# Altium integrated library Analog Devices Switches and Multiplexers Analog Switches.IntLib: 575 symbols (part 13 of 23)
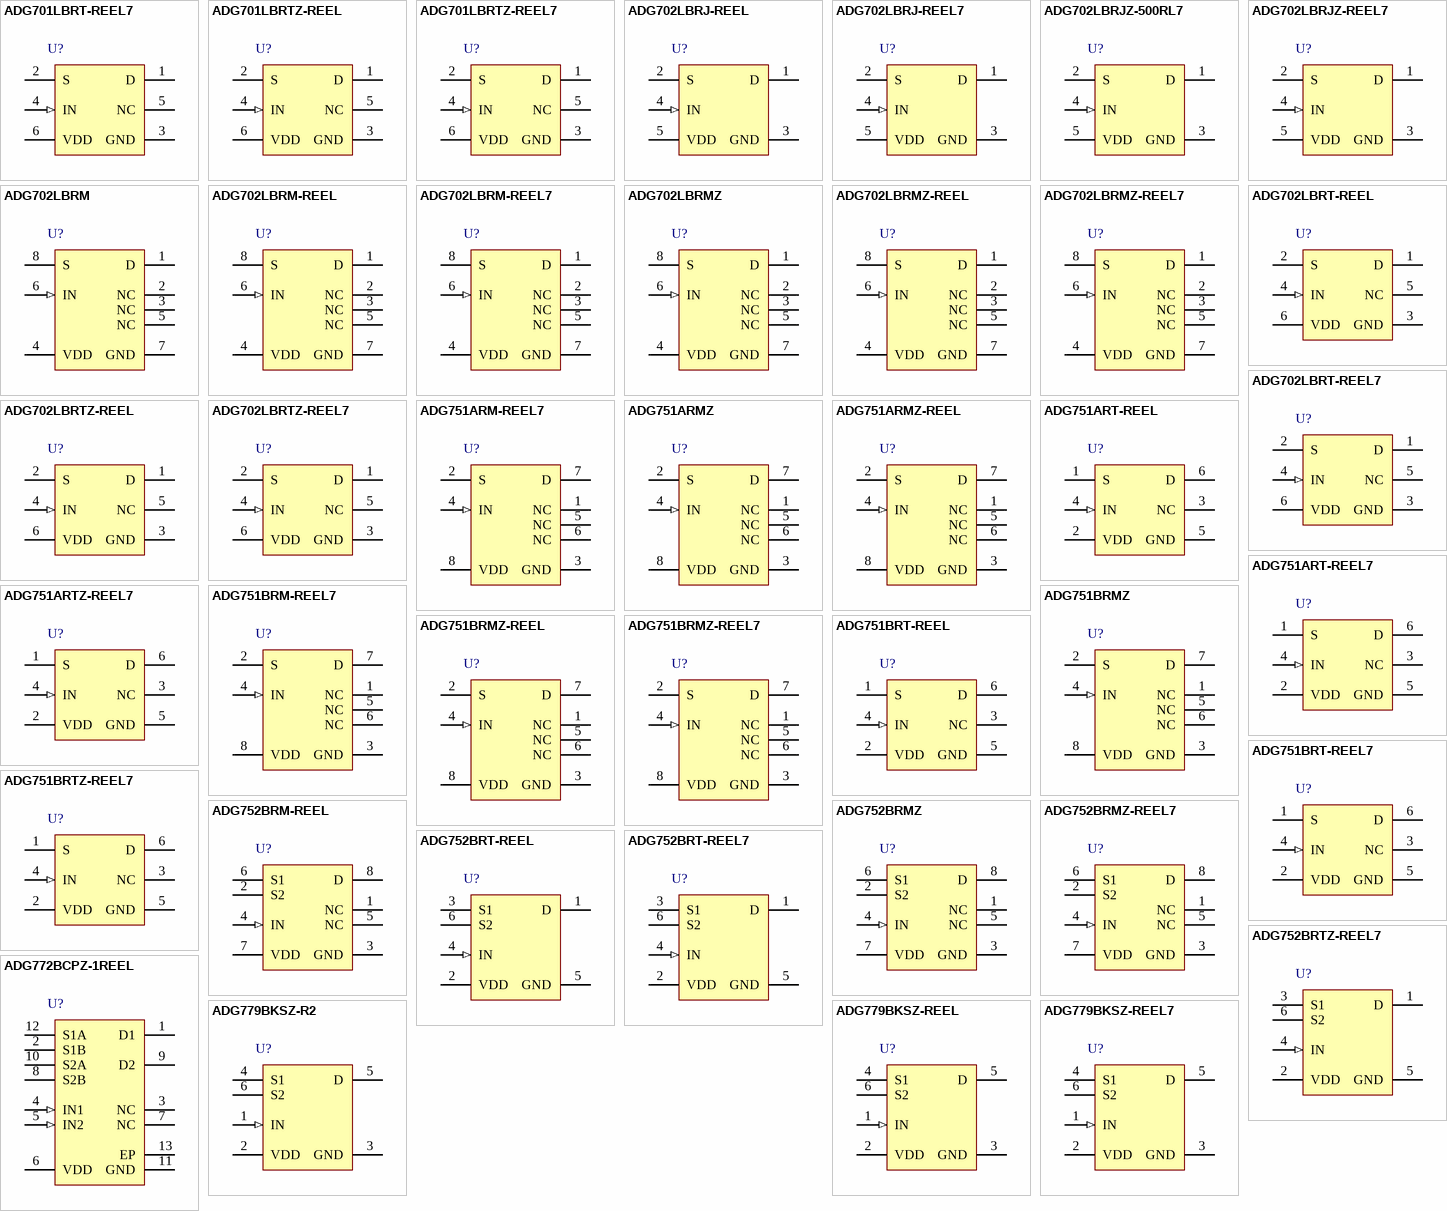
[diagram p27: symbols ADG701LBRT-REEL7 to ADG779BKSZ-REEL7]

## ADG702LBRTZ-REEL7
designator U?
CMOS Low Voltage 2 Ohm SPST Switch, -40 to 85 degC, 6-pin SOT23 (RJ-6), Reel; Manufacturer: Analog Devices; PartNumber: ADG702LBRTZ-REEL7; Id, Is (ON): 10pA, 10pA; Max Pos Supply: 5.5V; Min Pos Supply: 1.8V; Power Dissipation: 5uW; Ron (ohms): 2; DatasheetVersion: Rev. 0; PackageVersion: 121608-A, 12/2008; PackageReference: RJ-6; PackageDescription: 6-Pin Small Outline Transistor Package, Body 2.9 x 1.6 mm, Pitch 0.95 mm; Supplier 1: Digi-Key; Supplier Part Number 1: ADG702LBRTZ-REEL7TR-ND; Supplier 2: Digi-Key; Supplier Part Number 2: ADG702LBRTZ-REEL7CT-ND; Supplier 3: Digi-Key; Supplier Part Number 3: ADG702LBRTZ-REEL7DKR-ND; Supplier 4: Farnell; Supplier Part Number 4: 2312946; Supplier 5: Newark; Supplier Part Number 5: 28M3621; Supplier 6: Newark; Supplier Part Number 6: 67W3127; Supplier 7: Mouser; Supplier Part Number 7: 584-ADG702LBRTZ-R7; Configuration: SPST; Is OFF: 10pA, 10pA; Packing: Reel; Mounting Technology: Surface Mount; Code_JEDEC: MO-178-AB; ComponentLink1Description: Manufacturer URL; ComponentLink1URL: http://www.analog.com/en/index.html; ComponentLink2Description: Datasheet; ComponentLink2URL: http://www.analog.com/static/imported-files/data_sheets/ADG701L_702L.pdf; ComponentLink3Description: Package Specification; ComponentLink3URL: http://www.analog.com/static/imported-files/packages/PKG_PDF/SOT-23(RJ)/RJ_6.pdf
footprint ADI-RJ-6_N (SOT23, 6-Leads, Body 2.9x1.6mm, Pitch 0.95mm, IPC Medium Density)
footprint ADI-RJ-6_L (SOT23, 6-Leads, Body 2.9x1.6mm, Pitch 0.95mm, IPC High Density)
footprint ADI-RJ-6_M (SOT23, 6-Leads, Body 2.9x1.6mm, Pitch 0.95mm, IPC Low Density)
pins: 1 D "Drain Terminal. May be an input or output.", 2 S "Source Terminal. May be an input or output.", 3 GND (power) "Ground (0 V) Reference", 4 IN (in) "Logic Control Input", 5 NC "No Connect.", 6 VDD (power) "Most Positive Power Supply Potential."

## ADG751ARM-REEL7
designator U?
CMOS, Low Voltage RF / Video, SPST Switch, 15 Ohm Ron, 8-pin SOP (RM-8), Reel; Manufacturer: Analog Devices; PartNumber: ADG751ARM-REEL7; # Sw Functions: 1; Max Neg Supply: 0V; Max Pos Supply: +5.5V; Ron (ohms): 15, 35; t ON: 9ns, 12ns; DatasheetVersion: Rev. A; PackageVersion: Aug-05; PackageReference: RM-8; PackageDescription: 8-Pin Mini Small Outline Package, Body 3 x 3 mm, Pitch 0.65 mm; Supplier 1: Digi-Key; Supplier Part Number 1: ADG751ARM-REEL7-ND; Configuration: SPST; Packing: Reel; Mounting Technology: Surface Mount; Code_JEDEC: MO-187-AA; ComponentLink1Description: Manufacturer URL; ComponentLink1URL: http://www.analog.com/en/index.html; ComponentLink2Description: Datasheet; ComponentLink2URL: http://www.analog.com/static/imported-files/data_sheets/ADG751.pdf; ComponentLink3Description: Package Specification; ComponentLink3URL: http://www.analog.com/static/imported-files/packages/PKG_PDF/MSOP%28RM%29/RM_8.pdf
footprint ADI-RM-8_N (SOP, 8-Leads, Body 3x3mm, Pitch 0.65mm, IPC Medium Density)
footprint ADI-RM-8_L (SOP, 8-Leads, Body 3x3mm, Pitch 0.65mm, IPC High Density)
footprint ADI-RM-8_M (SOP, 8-Leads, Body 3x3mm, Pitch 0.65mm, IPC Low Density)
pins: 1 NC "NO CONNECT", 2 S "Source terminal. May be an input or output.", 3 GND (power) "Ground (0 V) reference.", 4 IN (in) "Logic control input.", 5 NC "NO CONNECT", 6 NC "NO CONNECT", 7 D "Drain terminal. May be an input or output.", 8 VDD (power) "Most positive power supply potential."

## ADG751ARMZ
designator U?
CMOS, Low Voltage RF / Video, SPST Switch, 15 Ohm Ron, 8-pin SOP (RM-8), Tube; Manufacturer: Analog Devices; PartNumber: ADG751ARMZ; # Sw Functions: 1; Max Neg Supply: 0V; Max Pos Supply: +5.5V; Ron (ohms): 15, 35; t ON: 9ns, 12ns; DatasheetVersion: Rev. A; PackageVersion: Aug-05; PackageReference: RM-8; PackageDescription: 8-Pin Mini Small Outline Package, Body 3 x 3 mm, Pitch 0.65 mm; Supplier 1: Digi-Key; Supplier Part Number 1: ADG751ARMZ-ND; Supplier 2: Mouser; Supplier Part Number 2: 584-ADG751ARMZ; Configuration: SPST; Packing: Tube; Mounting Technology: Surface Mount; Code_JEDEC: MO-187-AA; ComponentLink1Description: Manufacturer URL; ComponentLink1URL: http://www.analog.com/en/index.html; ComponentLink2Description: Datasheet; ComponentLink2URL: http://www.analog.com/static/imported-files/data_sheets/ADG751.pdf; ComponentLink3Description: Package Specification; ComponentLink3URL: http://www.analog.com/static/imported-files/packages/PKG_PDF/MSOP%28RM%29/RM_8.pdf
footprint ADI-RM-8_N (SOP, 8-Leads, Body 3x3mm, Pitch 0.65mm, IPC Medium Density)
footprint ADI-RM-8_L (SOP, 8-Leads, Body 3x3mm, Pitch 0.65mm, IPC High Density)
footprint ADI-RM-8_M (SOP, 8-Leads, Body 3x3mm, Pitch 0.65mm, IPC Low Density)
pins: 1 NC "NO CONNECT", 2 S "Source terminal. May be an input or output.", 3 GND (power) "Ground (0 V) reference.", 4 IN (in) "Logic control input.", 5 NC "NO CONNECT", 6 NC "NO CONNECT", 7 D "Drain terminal. May be an input or output.", 8 VDD (power) "Most positive power supply potential."

## ADG751ARMZ-REEL
designator U?
CMOS, Low Voltage RF / Video, SPST Switch, 15 Ohm Ron, 8-pin SOP (RM-8), Reel; Manufacturer: Analog Devices; PartNumber: ADG751ARMZ-REEL; # Sw Functions: 1; Max Neg Supply: 0V; Max Pos Supply: +5.5V; Ron (ohms): 15, 35; t ON: 9ns, 12ns; DatasheetVersion: Rev. A; PackageVersion: Aug-05; PackageReference: RM-8; PackageDescription: 8-Pin Mini Small Outline Package, Body 3 x 3 mm, Pitch 0.65 mm; Supplier 1: Digi-Key; Supplier Part Number 1: ADG751ARMZ-REEL-ND; Supplier 2: Mouser; Supplier Part Number 2: 584-ADG751ARMZ-R; Configuration: SPST; Packing: Reel; Mounting Technology: Surface Mount; Code_JEDEC: MO-187-AA; ComponentLink1Description: Manufacturer URL; ComponentLink1URL: http://www.analog.com/en/index.html; ComponentLink2Description: Datasheet; ComponentLink2URL: http://www.analog.com/static/imported-files/data_sheets/ADG751.pdf; ComponentLink3Description: Package Specification; ComponentLink3URL: http://www.analog.com/static/imported-files/packages/PKG_PDF/MSOP%28RM%29/RM_8.pdf
footprint ADI-RM-8_N (SOP, 8-Leads, Body 3x3mm, Pitch 0.65mm, IPC Medium Density)
footprint ADI-RM-8_L (SOP, 8-Leads, Body 3x3mm, Pitch 0.65mm, IPC High Density)
footprint ADI-RM-8_M (SOP, 8-Leads, Body 3x3mm, Pitch 0.65mm, IPC Low Density)
pins: 1 NC "NO CONNECT", 2 S "Source terminal. May be an input or output.", 3 GND (power) "Ground (0 V) reference.", 4 IN (in) "Logic control input.", 5 NC "NO CONNECT", 6 NC "NO CONNECT", 7 D "Drain terminal. May be an input or output.", 8 VDD (power) "Most positive power supply potential."

## ADG751ART-REEL
designator U?
CMOS, Low Voltage RF / Video, SPST Switch, 15 Ohm Ron, 6-pin SOT23 (RT-6), Reel; Manufacturer: Analog Devices; PartNumber: ADG751ART-REEL; # Sw Functions: 1; Max Neg Supply: 0V; Max Pos Supply: +5.5V; Ron (ohms): 15, 35; t ON: 9ns, 12ns; DatasheetVersion: Rev. A; PackageVersion: 121608-A, 12/2008; PackageReference: RJ-6; PackageDescription: 6-Pin Small Outline Transistor Package, Body 2.9 x 1.6 mm, Pitch 0.95 mm; Supplier 1: Digi-Key; Supplier Part Number 1: ADG751ART-REEL-ND; Supplier 2: Mouser; Supplier Part Number 2: 584-ADG751ART-R; Configuration: SPST; Packing: Reel; Mounting Technology: Surface Mount; Code_JEDEC: MO-178-AB; ComponentLink1Description: Manufacturer URL; ComponentLink1URL: http://www.analog.com/en/index.html; ComponentLink2Description: Datasheet; ComponentLink2URL: http://www.analog.com/static/imported-files/data_sheets/ADG751.pdf; ComponentLink3Description: Package Specification; ComponentLink3URL: http://www.analog.com/static/imported-files/packages/PKG_PDF/SOT-23(RJ)/RJ_6.pdf
footprint ADI-RJ-6_N (SOT23, 6-Leads, Body 2.9x1.6mm, Pitch 0.95mm, IPC Medium Density)
footprint ADI-RJ-6_L (SOT23, 6-Leads, Body 2.9x1.6mm, Pitch 0.95mm, IPC High Density)
footprint ADI-RJ-6_M (SOT23, 6-Leads, Body 2.9x1.6mm, Pitch 0.95mm, IPC Low Density)
pins: 1 S "Source terminal. May be an input or output.", 2 VDD (power) "Most positive power supply potential.", 3 NC "NO CONNECT", 4 IN (in) "Logic control input.", 5 GND (power) "Ground (0 V) reference.", 6 D "Drain terminal. May be an input or output."

## ADG751ART-REEL7
designator U?
CMOS, Low Voltage RF / Video, SPST Switch, 15 Ohm Ron, 6-pin SOT23 (RT-6), Reel; Manufacturer: Analog Devices; PartNumber: ADG751ART-REEL7; # Sw Functions: 1; Max Neg Supply: 0V; Max Pos Supply: +5.5V; Ron (ohms): 15, 35; t ON: 9ns, 12ns; DatasheetVersion: Rev. A; PackageVersion: 121608-A, 12/2008; PackageReference: RJ-6; PackageDescription: 6-Pin Small Outline Transistor Package, Body 2.9 x 1.6 mm, Pitch 0.95 mm; Supplier 1: Digi-Key; Supplier Part Number 1: ADG751ART-REEL7TR-ND; Supplier 2: Digi-Key; Supplier Part Number 2: ADG751ART-REEL7CT-ND; Supplier 3: Digi-Key; Supplier Part Number 3: ADG751ART-REEL7DKR-ND; Supplier 4: Mouser; Supplier Part Number 4: 584-ADG751ART-R7; Configuration: SPST; Packing: Reel; Mounting Technology: Surface Mount; Code_JEDEC: MO-178-AB; ComponentLink1Description: Manufacturer URL; ComponentLink1URL: http://www.analog.com/en/index.html; ComponentLink2Description: Datasheet; ComponentLink2URL: http://www.analog.com/static/imported-files/data_sheets/ADG751.pdf; ComponentLink3Description: Package Specification; ComponentLink3URL: http://www.analog.com/static/imported-files/packages/PKG_PDF/SOT-23(RJ)/RJ_6.pdf
footprint ADI-RJ-6_N (SOT23, 6-Leads, Body 2.9x1.6mm, Pitch 0.95mm, IPC Medium Density)
footprint ADI-RJ-6_L (SOT23, 6-Leads, Body 2.9x1.6mm, Pitch 0.95mm, IPC High Density)
footprint ADI-RJ-6_M (SOT23, 6-Leads, Body 2.9x1.6mm, Pitch 0.95mm, IPC Low Density)
pins: 1 S "Source terminal. May be an input or output.", 2 VDD (power) "Most positive power supply potential.", 3 NC "NO CONNECT", 4 IN (in) "Logic control input.", 5 GND (power) "Ground (0 V) reference.", 6 D "Drain terminal. May be an input or output."

## ADG751ARTZ-REEL7
designator U?
CMOS, Low Voltage RF / Video, SPST Switch, 15 Ohm Ron, 6-pin SOT23 (RT-6), Reel; Manufacturer: Analog Devices; PartNumber: ADG751ARTZ-REEL7; # Sw Functions: 1; Max Neg Supply: 0V; Max Pos Supply: +5.5V; Ron (ohms): 15, 35; t ON: 9ns, 12ns; DatasheetVersion: Rev. A; PackageVersion: 121608-A, 12/2008; PackageReference: RJ-6; PackageDescription: 6-Pin Small Outline Transistor Package, Body 2.9 x 1.6 mm, Pitch 0.95 mm; Supplier 1: Digi-Key; Supplier Part Number 1: ADG751ARTZ-REEL7TR-ND; Supplier 2: Digi-Key; Supplier Part Number 2: ADG751ARTZ-REEL7CT-ND; Supplier 3: Digi-Key; Supplier Part Number 3: ADG751ARTZ-REEL7DKR-ND; Supplier 4: Farnell; Supplier Part Number 4: 2312947; Supplier 5: Newark; Supplier Part Number 5: 67W3128; Supplier 6: Newark; Supplier Part Number 6: 12M7838; Supplier 7: Mouser; Supplier Part Number 7: 584-ADG751ARTZ-R7; Configuration: SPST; Packing: Reel; Mounting Technology: Surface Mount; Code_JEDEC: MO-178-AB; ComponentLink1Description: Manufacturer URL; ComponentLink1URL: http://www.analog.com/en/index.html; ComponentLink2Description: Datasheet; ComponentLink2URL: http://www.analog.com/static/imported-files/data_sheets/ADG751.pdf; ComponentLink3Description: Package Specification; ComponentLink3URL: http://www.analog.com/static/imported-files/packages/PKG_PDF/SOT-23(RJ)/RJ_6.pdf
footprint ADI-RJ-6_N (SOT23, 6-Leads, Body 2.9x1.6mm, Pitch 0.95mm, IPC Medium Density)
footprint ADI-RJ-6_L (SOT23, 6-Leads, Body 2.9x1.6mm, Pitch 0.95mm, IPC High Density)
footprint ADI-RJ-6_M (SOT23, 6-Leads, Body 2.9x1.6mm, Pitch 0.95mm, IPC Low Density)
pins: 1 S "Source terminal. May be an input or output.", 2 VDD (power) "Most positive power supply potential.", 3 NC "NO CONNECT", 4 IN (in) "Logic control input.", 5 GND (power) "Ground (0 V) reference.", 6 D "Drain terminal. May be an input or output."

## ADG751BRM-REEL7
designator U?
CMOS, Low Voltage RF / Video, SPST Switch, 15 Ohm Ron, 8-pin SOP (RM-8), Reel; Manufacturer: Analog Devices; PartNumber: ADG751BRM-REEL7; # Sw Functions: 1; Max Neg Supply: 0V; Max Pos Supply: +5.5V; Ron (ohms): 28, 60; t ON: 9ns, 12ns; DatasheetVersion: Rev. A; PackageVersion: Aug-05; PackageReference: RM-8; PackageDescription: 8-Pin Mini Small Outline Package, Body 3 x 3 mm, Pitch 0.65 mm; Configuration: SPST; Packing: Reel; Mounting Technology: Surface Mount; Code_JEDEC: MO-187-AA; ComponentLink1Description: Manufacturer URL; ComponentLink1URL: http://www.analog.com/en/index.html; ComponentLink2Description: Datasheet; ComponentLink2URL: http://www.analog.com/static/imported-files/data_sheets/ADG751.pdf; ComponentLink3Description: Package Specification; ComponentLink3URL: http://www.analog.com/static/imported-files/packages/PKG_PDF/MSOP%28RM%29/RM_8.pdf
footprint ADI-RM-8_N (SOP, 8-Leads, Body 3x3mm, Pitch 0.65mm, IPC Medium Density)
footprint ADI-RM-8_L (SOP, 8-Leads, Body 3x3mm, Pitch 0.65mm, IPC High Density)
footprint ADI-RM-8_M (SOP, 8-Leads, Body 3x3mm, Pitch 0.65mm, IPC Low Density)
pins: 1 NC "NO CONNECT", 2 S "Source terminal. May be an input or output.", 3 GND (power) "Ground (0 V) reference.", 4 IN (in) "Logic control input.", 5 NC "NO CONNECT", 6 NC "NO CONNECT", 7 D "Drain terminal. May be an input or output.", 8 VDD (power) "Most positive power supply potential."

## ADG751BRMZ
designator U?
CMOS, Low Voltage RF / Video, SPST Switch, 15 Ohm Ron, 8-pin SOP (RM-8), Tube; Manufacturer: Analog Devices; PartNumber: ADG751BRMZ; # Sw Functions: 1; Max Neg Supply: 0V; Max Pos Supply: +5.5V; Ron (ohms): 28, 60; t ON: 9ns, 12ns; DatasheetVersion: Rev. A; PackageVersion: Aug-05; PackageReference: RM-8; PackageDescription: 8-Pin Mini Small Outline Package, Body 3 x 3 mm, Pitch 0.65 mm; Supplier 1: Digi-Key; Supplier Part Number 1: ADG751BRMZ-ND; Configuration: SPST; Packing: Tube; Mounting Technology: Surface Mount; Code_JEDEC: MO-187-AA; ComponentLink1Description: Manufacturer URL; ComponentLink1URL: http://www.analog.com/en/index.html; ComponentLink2Description: Datasheet; ComponentLink2URL: http://www.analog.com/static/imported-files/data_sheets/ADG751.pdf; ComponentLink3Description: Package Specification; ComponentLink3URL: http://www.analog.com/static/imported-files/packages/PKG_PDF/MSOP%28RM%29/RM_8.pdf
footprint ADI-RM-8_N (SOP, 8-Leads, Body 3x3mm, Pitch 0.65mm, IPC Medium Density)
footprint ADI-RM-8_L (SOP, 8-Leads, Body 3x3mm, Pitch 0.65mm, IPC High Density)
footprint ADI-RM-8_M (SOP, 8-Leads, Body 3x3mm, Pitch 0.65mm, IPC Low Density)
pins: 1 NC "NO CONNECT", 2 S "Source terminal. May be an input or output.", 3 GND (power) "Ground (0 V) reference.", 4 IN (in) "Logic control input.", 5 NC "NO CONNECT", 6 NC "NO CONNECT", 7 D "Drain terminal. May be an input or output.", 8 VDD (power) "Most positive power supply potential."

## ADG751BRMZ-REEL
designator U?
CMOS, Low Voltage RF / Video, SPST Switch, 15 Ohm Ron, 8-pin SOP (RM-8), Reel; Manufacturer: Analog Devices; PartNumber: ADG751BRMZ-REEL; # Sw Functions: 1; Max Neg Supply: 0V; Max Pos Supply: +5.5V; Ron (ohms): 28, 60; t ON: 9ns, 12ns; DatasheetVersion: Rev. A; PackageVersion: Aug-05; PackageReference: RM-8; PackageDescription: 8-Pin Mini Small Outline Package, Body 3 x 3 mm, Pitch 0.65 mm; Supplier 1: Digi-Key; Supplier Part Number 1: ADG751BRMZ-REELTR-ND; Supplier 2: Digi-Key; Supplier Part Number 2: ADG751BRMZ-REELCT-ND; Supplier 3: Digi-Key; Supplier Part Number 3: ADG751BRMZ-REELDKR-ND; Supplier 4: Mouser; Supplier Part Number 4: 584-ADG751BRMZ-R; Configuration: SPST; Packing: Reel; Mounting Technology: Surface Mount; Code_JEDEC: MO-187-AA; ComponentLink1Description: Manufacturer URL; ComponentLink1URL: http://www.analog.com/en/index.html; ComponentLink2Description: Datasheet; ComponentLink2URL: http://www.analog.com/static/imported-files/data_sheets/ADG751.pdf; ComponentLink3Description: Package Specification; ComponentLink3URL: http://www.analog.com/static/imported-files/packages/PKG_PDF/MSOP%28RM%29/RM_8.pdf
footprint ADI-RM-8_N (SOP, 8-Leads, Body 3x3mm, Pitch 0.65mm, IPC Medium Density)
footprint ADI-RM-8_L (SOP, 8-Leads, Body 3x3mm, Pitch 0.65mm, IPC High Density)
footprint ADI-RM-8_M (SOP, 8-Leads, Body 3x3mm, Pitch 0.65mm, IPC Low Density)
pins: 1 NC "NO CONNECT", 2 S "Source terminal. May be an input or output.", 3 GND (power) "Ground (0 V) reference.", 4 IN (in) "Logic control input.", 5 NC "NO CONNECT", 6 NC "NO CONNECT", 7 D "Drain terminal. May be an input or output.", 8 VDD (power) "Most positive power supply potential."

## ADG751BRMZ-REEL7
designator U?
CMOS, Low Voltage RF / Video, SPST Switch, 15 Ohm Ron, 8-pin SOP (RM-8), Reel; Manufacturer: Analog Devices; PartNumber: ADG751BRMZ-REEL7; # Sw Functions: 1; Max Neg Supply: 0V; Max Pos Supply: +5.5V; Ron (ohms): 28, 60; t ON: 9ns, 12ns; DatasheetVersion: Rev. A; PackageVersion: Aug-05; PackageReference: RM-8; PackageDescription: 8-Pin Mini Small Outline Package, Body 3 x 3 mm, Pitch 0.65 mm; Supplier 1: Digi-Key; Supplier Part Number 1: ADG751BRMZ-REEL7-ND; Configuration: SPST; Packing: Reel; Mounting Technology: Surface Mount; Code_JEDEC: MO-187-AA; ComponentLink1Description: Manufacturer URL; ComponentLink1URL: http://www.analog.com/en/index.html; ComponentLink2Description: Datasheet; ComponentLink2URL: http://www.analog.com/static/imported-files/data_sheets/ADG751.pdf; ComponentLink3Description: Package Specification; ComponentLink3URL: http://www.analog.com/static/imported-files/packages/PKG_PDF/MSOP%28RM%29/RM_8.pdf
footprint ADI-RM-8_N (SOP, 8-Leads, Body 3x3mm, Pitch 0.65mm, IPC Medium Density)
footprint ADI-RM-8_L (SOP, 8-Leads, Body 3x3mm, Pitch 0.65mm, IPC High Density)
footprint ADI-RM-8_M (SOP, 8-Leads, Body 3x3mm, Pitch 0.65mm, IPC Low Density)
pins: 1 NC "NO CONNECT", 2 S "Source terminal. May be an input or output.", 3 GND (power) "Ground (0 V) reference.", 4 IN (in) "Logic control input.", 5 NC "NO CONNECT", 6 NC "NO CONNECT", 7 D "Drain terminal. May be an input or output.", 8 VDD (power) "Most positive power supply potential."

## ADG751BRT-REEL
designator U?
CMOS, Low Voltage RF / Video, SPST Switch, 15 Ohm Ron, 6-pin SOT23 (RT-6), Reel; Manufacturer: Analog Devices; PartNumber: ADG751BRT-REEL; # Sw Functions: 1; Max Neg Supply: 0V; Max Pos Supply: +5.5V; Ron (ohms): 28, 60; t ON: 9ns, 12ns; DatasheetVersion: Rev. A; PackageVersion: 121608-A, 12/2008; PackageReference: RJ-6; PackageDescription: 6-Pin Small Outline Transistor Package, Body 2.9 x 1.6 mm, Pitch 0.95 mm; Supplier 1: Digi-Key; Supplier Part Number 1: ADG751BRT-REEL-ND; Supplier 2: Mouser; Supplier Part Number 2: 584-ADG751BRT-R; Configuration: SPST; Packing: Reel; Mounting Technology: Surface Mount; Code_JEDEC: MO-178-AB; ComponentLink1Description: Manufacturer URL; ComponentLink1URL: http://www.analog.com/en/index.html; ComponentLink2Description: Datasheet; ComponentLink2URL: http://www.analog.com/static/imported-files/data_sheets/ADG751.pdf; ComponentLink3Description: Package Specification; ComponentLink3URL: http://www.analog.com/static/imported-files/packages/PKG_PDF/SOT-23(RJ)/RJ_6.pdf
footprint ADI-RJ-6_N (SOT23, 6-Leads, Body 2.9x1.6mm, Pitch 0.95mm, IPC Medium Density)
footprint ADI-RJ-6_L (SOT23, 6-Leads, Body 2.9x1.6mm, Pitch 0.95mm, IPC High Density)
footprint ADI-RJ-6_M (SOT23, 6-Leads, Body 2.9x1.6mm, Pitch 0.95mm, IPC Low Density)
pins: 1 S "Source terminal. May be an input or output.", 2 VDD (power) "Most positive power supply potential.", 3 NC "NO CONNECT", 4 IN (in) "Logic control input.", 5 GND (power) "Ground (0 V) reference.", 6 D "Drain terminal. May be an input or output."

## ADG751BRT-REEL7
designator U?
CMOS, Low Voltage RF / Video, SPST Switch, 15 Ohm Ron, 23-pin SOT23 (RT-6), Reel; Manufacturer: Analog Devices; PartNumber: ADG751BRT-REEL7; # Sw Functions: 1; Max Neg Supply: 0V; Max Pos Supply: +5.5V; Ron (ohms): 28, 60; t ON: 9ns, 12ns; DatasheetVersion: Rev. A; PackageVersion: 121608-A, 12/2008; PackageReference: RJ-6; PackageDescription: 6-Pin Small Outline Transistor Package, Body 2.9 x 1.6 mm, Pitch 0.95 mm; Supplier 1: Digi-Key; Supplier Part Number 1: ADG751BRT-REEL7TR-ND; Supplier 2: Digi-Key; Supplier Part Number 2: ADG751BRT-REEL7CT-ND; Supplier 3: Digi-Key; Supplier Part Number 3: ADG751BRT-REEL7DKR-ND; Supplier 4: Mouser; Supplier Part Number 4: 584-ADG751BRT-R7; Configuration: SPST; Packing: Reel; Mounting Technology: Surface Mount; Code_JEDEC: MO-178-AB; ComponentLink1Description: Manufacturer URL; ComponentLink1URL: http://www.analog.com/en/index.html; ComponentLink2Description: Datasheet; ComponentLink2URL: http://www.analog.com/static/imported-files/data_sheets/ADG751.pdf; ComponentLink3Description: Package Specification; ComponentLink3URL: http://www.analog.com/static/imported-files/packages/PKG_PDF/SOT-23(RJ)/RJ_6.pdf
footprint ADI-RJ-6_N (SOT23, 6-Leads, Body 2.9x1.6mm, Pitch 0.95mm, IPC Medium Density)
footprint ADI-RJ-6_L (SOT23, 6-Leads, Body 2.9x1.6mm, Pitch 0.95mm, IPC High Density)
footprint ADI-RJ-6_M (SOT23, 6-Leads, Body 2.9x1.6mm, Pitch 0.95mm, IPC Low Density)
pins: 1 S "Source terminal. May be an input or output.", 2 VDD (power) "Most positive power supply potential.", 3 NC "NO CONNECT", 4 IN (in) "Logic control input.", 5 GND (power) "Ground (0 V) reference.", 6 D "Drain terminal. May be an input or output."

## ADG751BRTZ-REEL7
designator U?
CMOS, Low Voltage RF / Video, SPST Switch, 15 Ohm Ron, 6-pin SOT23 (RT-6), Reel; Manufacturer: Analog Devices; PartNumber: ADG751BRTZ-REEL7; # Sw Functions: 1; Max Neg Supply: 0V; Max Pos Supply: +5.5V; Ron (ohms): 28, 60; t ON: 9ns, 12ns; DatasheetVersion: Rev. A; PackageVersion: 121608-A, 12/2008; PackageReference: RJ-6; PackageDescription: 6-Pin Small Outline Transistor Package, Body 2.9 x 1.6 mm, Pitch 0.95 mm; Supplier 1: Digi-Key; Supplier Part Number 1: ADG751BRTZ-REEL7TR-ND; Supplier 2: Digi-Key; Supplier Part Number 2: ADG751BRTZ-REEL7CT-ND; Supplier 3: Digi-Key; Supplier Part Number 3: ADG751BRTZ-REEL7DKR-ND; Supplier 4: Newark; Supplier Part Number 4: 59K1591; Supplier 5: Mouser; Supplier Part Number 5: 584-ADG751BRTZ-R7; Configuration: SPST; Packing: Reel; Mounting Technology: Surface Mount; Code_JEDEC: MO-178-AB; ComponentLink1Description: Manufacturer URL; ComponentLink1URL: http://www.analog.com/en/index.html; ComponentLink2Description: Datasheet; ComponentLink2URL: http://www.analog.com/static/imported-files/data_sheets/ADG751.pdf; ComponentLink3Description: Package Specification; ComponentLink3URL: http://www.analog.com/static/imported-files/packages/PKG_PDF/SOT-23(RJ)/RJ_6.pdf
footprint ADI-RJ-6_N (SOT23, 6-Leads, Body 2.9x1.6mm, Pitch 0.95mm, IPC Medium Density)
footprint ADI-RJ-6_L (SOT23, 6-Leads, Body 2.9x1.6mm, Pitch 0.95mm, IPC High Density)
footprint ADI-RJ-6_M (SOT23, 6-Leads, Body 2.9x1.6mm, Pitch 0.95mm, IPC Low Density)
pins: 1 S "Source terminal. May be an input or output.", 2 VDD (power) "Most positive power supply potential.", 3 NC "NO CONNECT", 4 IN (in) "Logic control input.", 5 GND (power) "Ground (0 V) reference.", 6 D "Drain terminal. May be an input or output."

## ADG752BRM-REEL
designator U?
CMOS, Low Voltage RF / Video, SPDT Switch, 15 Ohm Ron, 8-pin SOP (RM-8), Reel; Manufacturer: Analog Devices; PartNumber: ADG752BRM-REEL; # Sw Functions: 1; Max Neg Supply: 0V; Max Pos Supply: +5.5V; Ron (ohms): 15, 35; t ON: 8ns, 10ns; DatasheetVersion: Rev. 0; PackageVersion: Aug-05; PackageReference: RM-8; PackageDescription: 8-Pin Mini Small Outline Package, Body 3 x 3 mm, Pitch 0.65 mm; Supplier 1: Digi-Key; Supplier Part Number 1: ADG752BRM-REELTR-ND; Supplier 2: Digi-Key; Supplier Part Number 2: ADG752BRM-REELCT-ND; Supplier 3: Digi-Key; Supplier Part Number 3: ADG752BRM-REELDKR-ND; Supplier 4: Newark; Supplier Part Number 4: 98B6999; Supplier 5: Mouser; Supplier Part Number 5: 584-ADG752BRM-R; Configuration: SPDT; Packing: Reel; Mounting Technology: Surface Mount; Code_JEDEC: MO-187-AA; ComponentLink1Description: Manufacturer URL; ComponentLink1URL: http://www.analog.com/en/index.html; ComponentLink2Description: Datasheet; ComponentLink2URL: http://www.analog.com/static/imported-files/data_sheets/ADG752.pdf; ComponentLink3Description: Package Specification; ComponentLink3URL: http://www.analog.com/static/imported-files/packages/PKG_PDF/MSOP%28RM%29/RM_8.pdf
footprint ADI-RM-8_N (SOP, 8-Leads, Body 3x3mm, Pitch 0.65mm, IPC Medium Density)
footprint ADI-RM-8_L (SOP, 8-Leads, Body 3x3mm, Pitch 0.65mm, IPC High Density)
footprint ADI-RM-8_M (SOP, 8-Leads, Body 3x3mm, Pitch 0.65mm, IPC Low Density)
pins: 1 NC "NO CONNECT", 2 S2 "Source terminal. May be an input or output.", 3 GND (power) "Ground (0 V) reference.", 4 IN (in) "Logic control input.", 5 NC "NO CONNECT", 6 S1 "Source terminal. May be an input or output.", 7 VDD (power) "Most positive power supply potential.", 8 D "Drain terminal. May be an input or output."

## ADG752BRMZ
designator U?
CMOS, Low Voltage RF / Video, SPDT Switch, 15 Ohm Ron, 8-pin SOP (RM-8), Tube; Manufacturer: Analog Devices; PartNumber: ADG752BRMZ; # Sw Functions: 1; Max Neg Supply: 0V; Max Pos Supply: +5.5V; Ron (ohms): 15, 35; t ON: 8ns, 10ns; DatasheetVersion: Rev. 0; PackageVersion: Aug-05; PackageReference: RM-8; PackageDescription: 8-Pin Mini Small Outline Package, Body 3 x 3 mm, Pitch 0.65 mm; Supplier 1: Digi-Key; Supplier Part Number 1: ADG752BRMZ-ND; Supplier 2: Farnell; Supplier Part Number 2: 2305659; Supplier 3: Newark; Supplier Part Number 3: 59K1592; Supplier 4: Mouser; Supplier Part Number 4: 584-ADG752BRMZ; Configuration: SPDT; Packing: Tube; Mounting Technology: Surface Mount; Code_JEDEC: MO-187-AA; ComponentLink1Description: Manufacturer URL; ComponentLink1URL: http://www.analog.com/en/index.html; ComponentLink2Description: Datasheet; ComponentLink2URL: http://www.analog.com/static/imported-files/data_sheets/ADG752.pdf; ComponentLink3Description: Package Specification; ComponentLink3URL: http://www.analog.com/static/imported-files/packages/PKG_PDF/MSOP%28RM%29/RM_8.pdf
footprint ADI-RM-8_N (SOP, 8-Leads, Body 3x3mm, Pitch 0.65mm, IPC Medium Density)
footprint ADI-RM-8_L (SOP, 8-Leads, Body 3x3mm, Pitch 0.65mm, IPC High Density)
footprint ADI-RM-8_M (SOP, 8-Leads, Body 3x3mm, Pitch 0.65mm, IPC Low Density)
pins: 1 NC "NO CONNECT", 2 S2 "Source terminal. May be an input or output.", 3 GND (power) "Ground (0 V) reference.", 4 IN (in) "Logic control input.", 5 NC "NO CONNECT", 6 S1 "Source terminal. May be an input or output.", 7 VDD (power) "Most positive power supply potential.", 8 D "Drain terminal. May be an input or output."

## ADG752BRMZ-REEL7
designator U?
CMOS, Low Voltage RF / Video, SPDT Switch, 15 Ohm Ron, 8-pin SOP (RM-8), Reel; Manufacturer: Analog Devices; PartNumber: ADG752BRMZ-REEL7; # Sw Functions: 1; Max Neg Supply: 0V; Max Pos Supply: +5.5V; Ron (ohms): 15, 35; t ON: 8ns, 10ns; DatasheetVersion: Rev. 0; PackageVersion: Aug-05; PackageReference: RM-8; PackageDescription: 8-Pin Mini Small Outline Package, Body 3 x 3 mm, Pitch 0.65 mm; Supplier 1: Digi-Key; Supplier Part Number 1: ADG752BRMZ-REEL7-ND; Supplier 2: Newark; Supplier Part Number 2: 59K1593; Configuration: SPDT; Packing: Reel; Mounting Technology: Surface Mount; Code_JEDEC: MO-187-AA; ComponentLink1Description: Manufacturer URL; ComponentLink1URL: http://www.analog.com/en/index.html; ComponentLink2Description: Datasheet; ComponentLink2URL: http://www.analog.com/static/imported-files/data_sheets/ADG752.pdf; ComponentLink3Description: Package Specification; ComponentLink3URL: http://www.analog.com/static/imported-files/packages/PKG_PDF/MSOP%28RM%29/RM_8.pdf
footprint ADI-RM-8_N (SOP, 8-Leads, Body 3x3mm, Pitch 0.65mm, IPC Medium Density)
footprint ADI-RM-8_L (SOP, 8-Leads, Body 3x3mm, Pitch 0.65mm, IPC High Density)
footprint ADI-RM-8_M (SOP, 8-Leads, Body 3x3mm, Pitch 0.65mm, IPC Low Density)
pins: 1 NC "NO CONNECT", 2 S2 "Source terminal. May be an input or output.", 3 GND (power) "Ground (0 V) reference.", 4 IN (in) "Logic control input.", 5 NC "NO CONNECT", 6 S1 "Source terminal. May be an input or output.", 7 VDD (power) "Most positive power supply potential.", 8 D "Drain terminal. May be an input or output."

## ADG752BRT-REEL
designator U?
CMOS, Low Voltage RF / Video, SPDT Switch, 15 Ohm Ron, 6-pin SOT23 (RT-6), Reel; Manufacturer: Analog Devices; PartNumber: ADG752BRT-REEL; # Sw Functions: 1; Max Neg Supply: 0V; Max Pos Supply: +5.5V; Ron (ohms): 15, 35; t ON: 8ns, 10ns; DatasheetVersion: Rev. 0; PackageVersion: 121608-A, 12/2008; PackageReference: RJ-6; PackageDescription: 6-Pin Small Outline Transistor Package, Body 2.9 x 1.6 mm, Pitch 0.95 mm; Supplier 1: Digi-Key; Supplier Part Number 1: ADG752BRT-REEL-ND; Supplier 2: Newark; Supplier Part Number 2: 98B7001; Supplier 3: Mouser; Supplier Part Number 3: 584-ADG752BRT-R; Configuration: SPDT; Packing: Reel; Mounting Technology: Surface Mount; Code_JEDEC: MO-178-AB; ComponentLink1Description: Manufacturer URL; ComponentLink1URL: http://www.analog.com/en/index.html; ComponentLink2Description: Datasheet; ComponentLink2URL: http://www.analog.com/static/imported-files/data_sheets/ADG752.pdf; ComponentLink3Description: Package Specification; ComponentLink3URL: http://www.analog.com/static/imported-files/packages/PKG_PDF/SOT-23(RJ)/RJ_6.pdf
footprint ADI-RJ-6_N (SOT23, 6-Leads, Body 2.9x1.6mm, Pitch 0.95mm, IPC Medium Density)
footprint ADI-RJ-6_L (SOT23, 6-Leads, Body 2.9x1.6mm, Pitch 0.95mm, IPC High Density)
footprint ADI-RJ-6_M (SOT23, 6-Leads, Body 2.9x1.6mm, Pitch 0.95mm, IPC Low Density)
pins: 1 D "Drain terminal. May be an input or output.", 2 VDD (power) "Most positive power supply potential.", 3 S1 "Source terminal. May be an input or output.", 4 IN (in) "Logic control input.", 5 GND (power) "Ground (0 V) reference.", 6 S2 "Source terminal. May be an input or output."

## ADG752BRT-REEL7
designator U?
CMOS, Low Voltage RF / Video, SPDT Switch, 15 Ohm Ron, 6-pin SOT23 (RT-6), Reel; Manufacturer: Analog Devices; PartNumber: ADG752BRT-REEL7; # Sw Functions: 1; Max Neg Supply: 0V; Max Pos Supply: +5.5V; Ron (ohms): 15, 35; t ON: 8ns, 10ns; DatasheetVersion: Rev. 0; PackageVersion: 121608-A, 12/2008; PackageReference: RJ-6; PackageDescription: 6-Pin Small Outline Transistor Package, Body 2.9 x 1.6 mm, Pitch 0.95 mm; Supplier 1: Digi-Key; Supplier Part Number 1: ADG752BRT-REEL7TR-ND; Supplier 2: Digi-Key; Supplier Part Number 2: ADG752BRT-REEL7CT-ND; Supplier 3: Digi-Key; Supplier Part Number 3: ADG752BRT-REEL7DKR-ND; Supplier 4: Mouser; Supplier Part Number 4: 584-ADG752BRT-R7; Configuration: SPDT; Packing: Reel; Mounting Technology: Surface Mount; Code_JEDEC: MO-178-AB; ComponentLink1Description: Manufacturer URL; ComponentLink1URL: http://www.analog.com/en/index.html; ComponentLink2Description: Datasheet; ComponentLink2URL: http://www.analog.com/static/imported-files/data_sheets/ADG752.pdf; ComponentLink3Description: Package Specification; ComponentLink3URL: http://www.analog.com/static/imported-files/packages/PKG_PDF/SOT-23(RJ)/RJ_6.pdf
footprint ADI-RJ-6_N (SOT23, 6-Leads, Body 2.9x1.6mm, Pitch 0.95mm, IPC Medium Density)
footprint ADI-RJ-6_L (SOT23, 6-Leads, Body 2.9x1.6mm, Pitch 0.95mm, IPC High Density)
footprint ADI-RJ-6_M (SOT23, 6-Leads, Body 2.9x1.6mm, Pitch 0.95mm, IPC Low Density)
pins: 1 D "Drain terminal. May be an input or output.", 2 VDD (power) "Most positive power supply potential.", 3 S1 "Source terminal. May be an input or output.", 4 IN (in) "Logic control input.", 5 GND (power) "Ground (0 V) reference.", 6 S2 "Source terminal. May be an input or output."

## ADG752BRTZ-REEL7
designator U?
CMOS, Low Voltage RF / Video, SPDT Switch, 15 Ohm Ron, 6-pin SOT23 (RT-6), Reel; Manufacturer: Analog Devices; PartNumber: ADG752BRTZ-REEL7; # Sw Functions: 1; Max Neg Supply: 0V; Max Pos Supply: +5.5V; Ron (ohms): 15, 35; t ON: 8ns, 10ns; DatasheetVersion: Rev. 0; PackageVersion: 121608-A, 12/2008; PackageReference: RJ-6; PackageDescription: 6-Pin Small Outline Transistor Package, Body 2.9 x 1.6 mm, Pitch 0.95 mm; Supplier 1: Digi-Key; Supplier Part Number 1: ADG752BRTZ-REEL7TR-ND; Supplier 2: Digi-Key; Supplier Part Number 2: ADG752BRTZ-REEL7CT-ND; Supplier 3: Digi-Key; Supplier Part Number 3: ADG752BRTZ-REEL7DKR-ND; Supplier 4: Farnell; Supplier Part Number 4: 2312948; Supplier 5: Newark; Supplier Part Number 5: 59K1594; Supplier 6: Newark; Supplier Part Number 6: 67W3129; Supplier 7: Mouser; Supplier Part Number 7: 584-ADG752BRTZ-R7; Configuration: SPDT; Packing: Reel; Mounting Technology: Surface Mount; Code_JEDEC: MO-178-AB; ComponentLink1Description: Manufacturer URL; ComponentLink1URL: http://www.analog.com/en/index.html; ComponentLink2Description: Datasheet; ComponentLink2URL: http://www.analog.com/static/imported-files/data_sheets/ADG752.pdf; ComponentLink3Description: Package Specification; ComponentLink3URL: http://www.analog.com/static/imported-files/packages/PKG_PDF/SOT-23(RJ)/RJ_6.pdf
footprint ADI-RJ-6_N (SOT23, 6-Leads, Body 2.9x1.6mm, Pitch 0.95mm, IPC Medium Density)
footprint ADI-RJ-6_L (SOT23, 6-Leads, Body 2.9x1.6mm, Pitch 0.95mm, IPC High Density)
footprint ADI-RJ-6_M (SOT23, 6-Leads, Body 2.9x1.6mm, Pitch 0.95mm, IPC Low Density)
pins: 1 D "Drain terminal. May be an input or output.", 2 VDD (power) "Most positive power supply potential.", 3 S1 "Source terminal. May be an input or output.", 4 IN (in) "Logic control input.", 5 GND (power) "Ground (0 V) reference.", 6 S2 "Source terminal. May be an input or output."

## ADG772BCPZ-1REEL
designator U?
CMOS Low Power Dual 2:1 Mux / Demux USB 2.0 (480 Mbps) / USB 1.1 (12 Mbps), -40 to 85 degC, 12-pin QFN (CP-12-1), Reel; Manufacturer: Analog Devices; PartNumber: ADG772BCPZ-1REEL; Configuration: SPDT; Id, Is (ON): 200pA; Max Pos Supply: 3.6V; Min Pos Supply: 2.7V; Power Dissipation: 21.6nW; Ron (ohms): 6.7; DatasheetVersion: Rev. A; PackageReference: CP-12-1; PackageDescription: 12-Pin Lead Frame Chip Scale Package, Body 3 x 3 mm, Pitch 0.5 mm; Supplier 1: Digi-Key; Supplier Part Number 1: ADG772BCPZ-1REELTR-ND; Supplier 2: Digi-Key; Supplier Part Number 2: ADG772BCPZ-1REELCT-ND; Supplier 3: Digi-Key; Supplier Part Number 3: ADG772BCPZ-1REELDKR-ND; Supplier 4: Newark; Supplier Part Number 4: 54M6709; Supplier 5: Mouser; Supplier Part Number 5: 584-ADG772BCPZ-1R; Is OFF: 200pA; Packing: Reel; Mounting Technology: Surface Mount; Code_JEDEC: MO-220-VEED-1; ComponentLink1Description: Manufacturer URL; ComponentLink1URL: http://www.analog.com/en/index.html; ComponentLink2Description: Datasheet; ComponentLink2URL: http://www.analog.com/static/imported-files/data_sheets/ADG772.pdf; ComponentLink3Description: Package Specification; ComponentLink3URL: http://www.analog.com/static/imported-files/packages/CP_12_1.pdf
footprint ADI-CP-12-1_N (QFN, 12-Leads, Body 3x3mm, Pitch 0.5mm, Thermal Pad 1.3x1.3mm, IPC Medium Density)
footprint ADI-CP-12-1_L (QFN, 12-Leads, Body 3x3mm, Pitch 0.5mm, Thermal Pad 1.3x1.3mm, IPC High Density)
footprint ADI-CP-12-1_M (QFN, 12-Leads, Body 3x3mm, Pitch 0.5mm, Thermal Pad 1.3x1.3mm, IPC Low Density)
pins: 1 D1 "Drain Terminal. Can be an input or an output.", 2 S1B "Source Terminal. Can be an input or an output.", 3 NC "No Connect.", 4 IN1 (in) "Logic Control Input. This pin controls Switch S1A and Switch S1B to D1.", 5 IN2 (in) "Login Control Input. This pin controls Switch S2A and Switch S2B to D2.", 6 VDD (power) "Most Positive Power Supply Potential.", 7 NC "No Connect.", 8 S2B "Source Terminal. Can be an input or an output.", 9 D2 "Drain Terminal. Can be an input or an output.", 10 S2A "Source Terminal. Can be an input or an output.", 11 GND (power) "Ground (0 V) Reference.", 12 S1A "Source Terminal. Can be an input or an output.", 13 EP

## ADG779BKSZ-R2
designator U?
CMOS 1.8 to 5.5 V, 2.5 Ohm SPDT Switch / 2:1 Mux, -40 to 85 degC, 6-pin SOT23 (KS-6), Reel; Manufacturer: Analog Devices; PartNumber: ADG779BKSZ-R2; Id, Is (ON): 10pA, 10pA; Max Pos Supply: 5.5V; Min Pos Supply: 1.8V; Power Dissipation: 5uW; Ron (ohms): 2.5; DatasheetVersion: Rev. A; PackageVersion: 072809-A, 07/2009; PackageReference: KS-6; PackageDescription: 6-Pin Thin Shrink Small Outline Transistor Package, Body 2 x 1.25 mm, Pitch 0.65 mm; Supplier 1: Digi-Key; Supplier Part Number 1: ADG779BKSZ-R2TR-ND; Supplier 2: Digi-Key; Supplier Part Number 2: ADG779BKSZ-R2CT-ND; Supplier 3: Digi-Key; Supplier Part Number 3: ADG779BKSZ-R2DKR-ND; Supplier 4: Farnell; Supplier Part Number 4: 2376776; Supplier 5: Newark; Supplier Part Number 5: 23X5964; Supplier 6: Newark; Supplier Part Number 6: 27T3797; Supplier 7: Mouser; Supplier Part Number 7: 584-ADG779BKSZ-R2; Configuration: SPDT; Is OFF: 10pA, 10pA; Packing: Reel; Mounting Technology: Surface Mount; Code_JEDEC: MO-203-AB; ComponentLink1Description: Manufacturer URL; ComponentLink1URL: http://www.analog.com/en/index.html; ComponentLink2Description: Datasheet; ComponentLink2URL: http://www.analog.com/static/imported-files/data_sheets/ADG779.pdf; ComponentLink3Description: Package Specification; ComponentLink3URL: http://www.analog.com/static/imported-files/packages/PKG_PDF/SC70(KS)/KS_6.pdf
footprint ADI-KS-6_N (SOT23, 6-Leads, Body 2x1.25mm, Pitch 0.65mm, IPC Medium Density)
footprint ADI-KS-6_L (SOT23, 6-Leads, Body 2x1.25mm, Pitch 0.65mm, IPC High Density)
footprint ADI-KS-6_M (SOT23, 6-Leads, Body 2x1.25mm, Pitch 0.65mm, IPC Low Density)
pins: 1 IN (in) "Logic Control Input.", 2 VDD (power) "Most Positive Power Supply Potential.", 3 GND (power) "Ground (0 V) Reference.", 4 S1 "Source Terminal. Can be an input or an output.", 5 D "Drain Terminal. Can be an input or an output.", 6 S2 "Source Terminal. Can be an input or an output."

## ADG779BKSZ-REEL
designator U?
CMOS 1.8 to 5.5 V, 2.5 Ohm SPDT Switch / 2:1 Mux, -40 to 85 degC, 6-pin SOT23 (KS-6), Reel; Manufacturer: Analog Devices; PartNumber: ADG779BKSZ-REEL; Id, Is (ON): 10pA, 10pA; Max Pos Supply: 5.5V; Min Pos Supply: 1.8V; Power Dissipation: 5uW; Ron (ohms): 2.5; DatasheetVersion: Rev. A; PackageVersion: 072809-A, 07/2009; PackageReference: KS-6; PackageDescription: 6-Pin Thin Shrink Small Outline Transistor Package, Body 2 x 1.25 mm, Pitch 0.65 mm; Supplier 1: Digi-Key; Supplier Part Number 1: ADG779BKSZ-REEL-ND; Supplier 2: Newark; Supplier Part Number 2: 59K1609; Supplier 3: Mouser; Supplier Part Number 3: 584-ADG779BKSZ-R; Configuration: SPDT; Is OFF: 10pA, 10pA; Packing: Reel; Mounting Technology: Surface Mount; Code_JEDEC: MO-203-AB; ComponentLink1Description: Manufacturer URL; ComponentLink1URL: http://www.analog.com/en/index.html; ComponentLink2Description: Datasheet; ComponentLink2URL: http://www.analog.com/static/imported-files/data_sheets/ADG779.pdf; ComponentLink3Description: Package Specification; ComponentLink3URL: http://www.analog.com/static/imported-files/packages/PKG_PDF/SC70(KS)/KS_6.pdf
footprint ADI-KS-6_N (SOT23, 6-Leads, Body 2x1.25mm, Pitch 0.65mm, IPC Medium Density)
footprint ADI-KS-6_L (SOT23, 6-Leads, Body 2x1.25mm, Pitch 0.65mm, IPC High Density)
footprint ADI-KS-6_M (SOT23, 6-Leads, Body 2x1.25mm, Pitch 0.65mm, IPC Low Density)
pins: 1 IN (in) "Logic Control Input.", 2 VDD (power) "Most Positive Power Supply Potential.", 3 GND (power) "Ground (0 V) Reference.", 4 S1 "Source Terminal. Can be an input or an output.", 5 D "Drain Terminal. Can be an input or an output.", 6 S2 "Source Terminal. Can be an input or an output."

## ADG779BKSZ-REEL7
designator U?
CMOS 1.8 to 5.5 V, 2.5 Ohm SPDT Switch / 2:1 Mux, -40 to 85 degC, 6-pin SOT23 (KS-6), Reel; Manufacturer: Analog Devices; PartNumber: ADG779BKSZ-REEL7; Id, Is (ON): 10pA, 10pA; Max Pos Supply: 5.5V; Min Pos Supply: 1.8V; Power Dissipation: 5uW; Ron (ohms): 2.5; DatasheetVersion: Rev. A; PackageVersion: 072809-A, 07/2009; PackageReference: KS-6; PackageDescription: 6-Pin Thin Shrink Small Outline Transistor Package, Body 2 x 1.25 mm, Pitch 0.65 mm; Supplier 1: Digi-Key; Supplier Part Number 1: ADG779BKSZ-REEL7TR-ND; Supplier 2: Digi-Key; Supplier Part Number 2: ADG779BKSZ-REEL7CT-ND; Supplier 3: Digi-Key; Supplier Part Number 3: ADG779BKSZ-REEL7DKR-ND; Supplier 4: Farnell; Supplier Part Number 4: 2112587; Supplier 5: Newark; Supplier Part Number 5: 19M8672; Supplier 6: Newark; Supplier Part Number 6: 59K1610; Supplier 7: Mouser; Supplier Part Number 7: 584-ADG779BKSZ-R7; Configuration: SPDT; Is OFF: 10pA, 10pA; Packing: Reel; Mounting Technology: Surface Mount; Code_JEDEC: MO-203-AB; ComponentLink1Description: Manufacturer URL; ComponentLink1URL: http://www.analog.com/en/index.html; ComponentLink2Description: Datasheet; ComponentLink2URL: http://www.analog.com/static/imported-files/data_sheets/ADG779.pdf; ComponentLink3Description: Package Specification; ComponentLink3URL: http://www.analog.com/static/imported-files/packages/PKG_PDF/SC70(KS)/KS_6.pdf
footprint ADI-KS-6_N (SOT23, 6-Leads, Body 2x1.25mm, Pitch 0.65mm, IPC Medium Density)
footprint ADI-KS-6_L (SOT23, 6-Leads, Body 2x1.25mm, Pitch 0.65mm, IPC High Density)
footprint ADI-KS-6_M (SOT23, 6-Leads, Body 2x1.25mm, Pitch 0.65mm, IPC Low Density)
pins: 1 IN (in) "Logic Control Input.", 2 VDD (power) "Most Positive Power Supply Potential.", 3 GND (power) "Ground (0 V) Reference.", 4 S1 "Source Terminal. Can be an input or an output.", 5 D "Drain Terminal. Can be an input or an output.", 6 S2 "Source Terminal. Can be an input or an output."

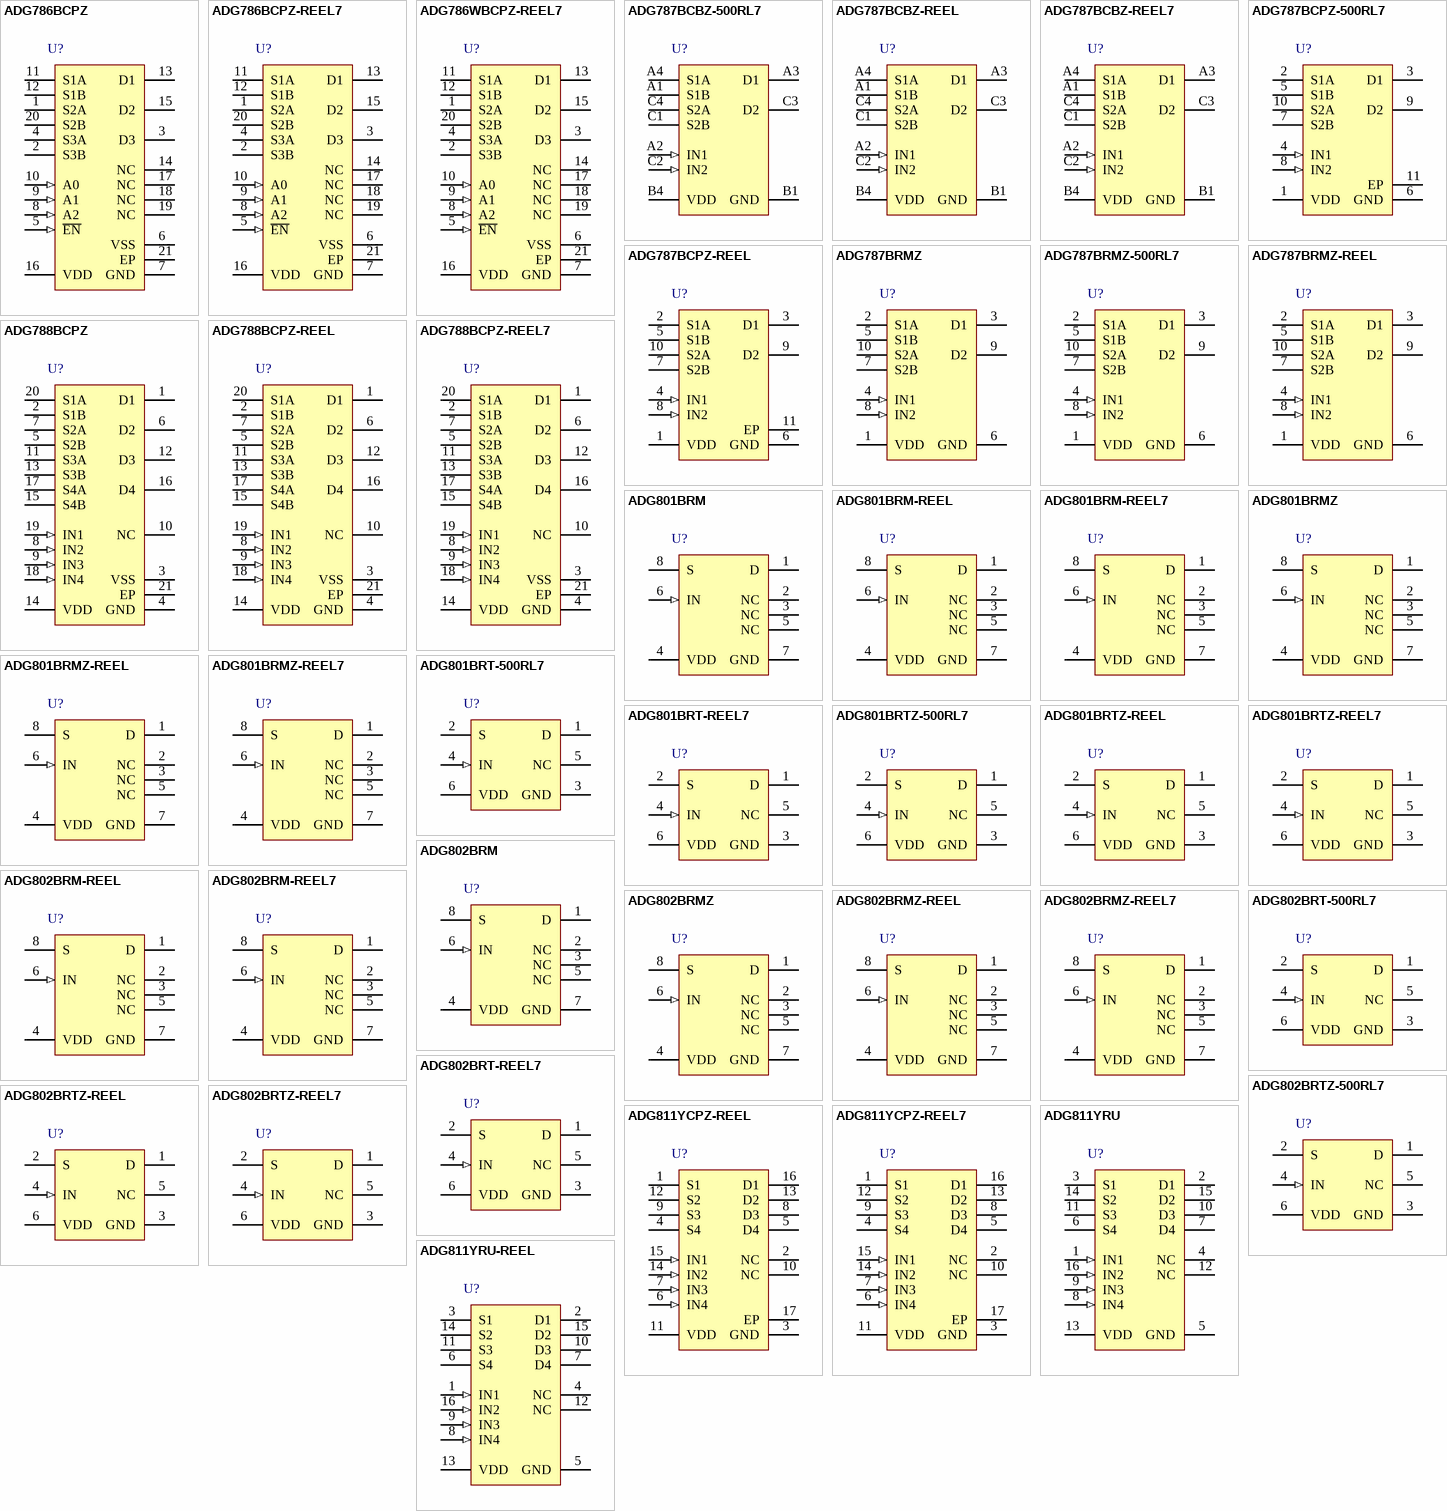
[diagram p9: symbols ADG786BCPZ to ADG811YRU-REEL]

## ADG786BCPZ
designator U?
2.5 Ohm, 1.8 to 5.5 V, +/-2.5 V Triple SPDT Switch, -40 to 85 degC, 20-pin QFN (CP-20-1), Tray; Manufacturer: Analog Devices; PartNumber: ADG786BCPZ; Id, Is (ON): 10pA, 10pA, 10pA; Max Pos Supply: 5.5V; Min Pos Supply: 1.8V; Power Dissipation: 5uW; Ron (ohms): 2.5; DatasheetVersion: Rev. A; PackageVersion: 012508-B, 01/2008; PackageReference: CP-20-1; PackageDescription: 20-Pin Lead Frame Chip Scale Package, Body 4 x 4 mm, Pitch 0.5 mm; Supplier 1: Digi-Key; Supplier Part Number 1: ADG786BCPZ-ND; Supplier 2: Newark; Supplier Part Number 2: 59K1617; Supplier 3: Mouser; Supplier Part Number 3: 584-ADG786BCPZ; Configuration: SPDT; Is OFF: 10pA, 10pA, 10pA; Packing: Tray; Mounting Technology: Surface Mount; Code_JEDEC: MO-220-VGGD-1; ComponentLink1Description: Manufacturer URL; ComponentLink1URL: http://www.analog.com/en/index.html; ComponentLink2Description: Datasheet; ComponentLink2URL: http://www.analog.com/static/imported-files/data_sheets/ADG786_788.pdf; ComponentLink3Description: Package Specification; ComponentLink3URL: http://www.analog.com/static/imported-files/packages/PKG_PDF/LFCSP(CP)/CP_20_1.pdf
footprint ADI-CP-20-1_N (QFN, 20-Leads, Body 4x4mm, Pitch 0.5mm, Thermal Pad 2.1x2.1mm, IPC Medium Density)
footprint ADI-CP-20-1_L (QFN, 20-Leads, Body 4x4mm, Pitch 0.5mm, Thermal Pad 2.1x2.1mm, IPC High Density)
footprint ADI-CP-20-1_M (QFN, 20-Leads, Body 4x4mm, Pitch 0.5mm, Thermal Pad 2.1x2.1mm, IPC Low Density)
pins: 1 S2A "Source Terminal. May be an input or output", 2 S3B "Source Terminal. May be an input or output", 3 D3 "Drain Terminal. May be an input or output", 4 S3A "Source Terminal. May be an input or output", 5 ~{EN} (in), 6 VSS (power) "Most Negative Power Supply in a Dual Supply Application. In single supply applications, this should be tied to ground close to the device.", 7 GND (power) "Ground (0 V) Reference", 8 A2 (in), 9 A1 (in), 10 A0 (in), 11 S1A "Source Terminal. May be an input or output", 12 S1B "Source Terminal. May be an input or output", 13 D1 "Drain Terminal. May be an input or output", 14 NC "No connection", 15 D2 "Drain Terminal. May be an input or output", 16 VDD (power) "Most Positive Power Supply Potential", 17 NC "No connection", 18 NC "No connection", 19 NC "No connection", 20 S2B "Source Terminal. May be an input or output", 21 EP (power) "Exposed Pad tied to substrate,vss"

## ADG786BCPZ-REEL7
designator U?
2.5 Ohm, 1.8 to 5.5 V, +/-2.5 V Triple SPDT Switch, -40 to 85 degC, 20-pin QFN (CP-20-1), Reel; Manufacturer: Analog Devices; PartNumber: ADG786BCPZ-REEL7; Id, Is (ON): 10pA, 10pA, 10pA; Max Pos Supply: 5.5V; Min Pos Supply: 1.8V; Power Dissipation: 5uW; Ron (ohms): 2.5; DatasheetVersion: Rev. A; PackageVersion: 012508-B, 01/2008; PackageReference: CP-20-1; PackageDescription: 20-Pin Lead Frame Chip Scale Package, Body 4 x 4 mm, Pitch 0.5 mm; Supplier 1: Digi-Key; Supplier Part Number 1: ADG786BCPZ-REEL7-ND; Supplier 2: Mouser; Supplier Part Number 2: 584-ADG786BCPZ-R7; Configuration: SPDT; Is OFF: 10pA, 10pA, 10pA; Packing: Reel; Mounting Technology: Surface Mount; Code_JEDEC: MO-220-VGGD-1; ComponentLink1Description: Manufacturer URL; ComponentLink1URL: http://www.analog.com/en/index.html; ComponentLink2Description: Datasheet; ComponentLink2URL: http://www.analog.com/static/imported-files/data_sheets/ADG786_788.pdf; ComponentLink3Description: Package Specification; ComponentLink3URL: http://www.analog.com/static/imported-files/packages/PKG_PDF/LFCSP(CP)/CP_20_1.pdf
footprint ADI-CP-20-1_N (QFN, 20-Leads, Body 4x4mm, Pitch 0.5mm, Thermal Pad 2.1x2.1mm, IPC Medium Density)
footprint ADI-CP-20-1_L (QFN, 20-Leads, Body 4x4mm, Pitch 0.5mm, Thermal Pad 2.1x2.1mm, IPC High Density)
footprint ADI-CP-20-1_M (QFN, 20-Leads, Body 4x4mm, Pitch 0.5mm, Thermal Pad 2.1x2.1mm, IPC Low Density)
pins: 1 S2A "Source Terminal. May be an input or output", 2 S3B "Source Terminal. May be an input or output", 3 D3 "Drain Terminal. May be an input or output", 4 S3A "Source Terminal. May be an input or output", 5 ~{EN} (in), 6 VSS (power) "Most Negative Power Supply in a Dual Supply Application. In single supply applications, this should be tied to ground close to the device.", 7 GND (power) "Ground (0 V) Reference", 8 A2 (in), 9 A1 (in), 10 A0 (in), 11 S1A "Source Terminal. May be an input or output", 12 S1B "Source Terminal. May be an input or output", 13 D1 "Drain Terminal. May be an input or output", 14 NC "No connection", 15 D2 "Drain Terminal. May be an input or output", 16 VDD (power) "Most Positive Power Supply Potential", 17 NC "No connection", 18 NC "No connection", 19 NC "No connection", 20 S2B "Source Terminal. May be an input or output", 21 EP (power) "Exposed Pad tied to substrate,vss"

## ADG786WBCPZ-REEL7
designator U?
2.5 Ohm, 1.8 to 5.5 V, +/-2.5 V Triple SPDT Switch, -40 to 85 degC, 20-pin QFN (CP-20-1), Reel; Manufacturer: Analog Devices; PartNumber: ADG786WBCPZ-REEL7; Id, Is (ON): 10pA, 10pA, 10pA; Max Pos Supply: 5.5V; Min Pos Supply: 1.8V; Power Dissipation: 5uW; Ron (ohms): 2.5; DatasheetVersion: Rev. A; PackageVersion: 012508-B, 01/2008; PackageReference: CP-20-1; PackageDescription: 20-Pin Lead Frame Chip Scale Package, Body 4 x 4 mm, Pitch 0.5 mm; Supplier 1: Mouser; Supplier Part Number 1: N/A; Configuration: SPDT; Is OFF: 10pA, 10pA, 10pA; Packing: Reel; Mounting Technology: Surface Mount; Code_JEDEC: MO-220-VGGD-1; ComponentLink1Description: Manufacturer URL; ComponentLink1URL: http://www.analog.com/en/index.html; ComponentLink2Description: Datasheet; ComponentLink2URL: http://www.analog.com/static/imported-files/data_sheets/ADG786_788.pdf; ComponentLink3Description: Package Specification; ComponentLink3URL: http://www.analog.com/static/imported-files/packages/PKG_PDF/LFCSP(CP)/CP_20_1.pdf
footprint ADI-CP-20-1_N (QFN, 20-Leads, Body 4x4mm, Pitch 0.5mm, Thermal Pad 2.1x2.1mm, IPC Medium Density)
footprint ADI-CP-20-1_L (QFN, 20-Leads, Body 4x4mm, Pitch 0.5mm, Thermal Pad 2.1x2.1mm, IPC High Density)
footprint ADI-CP-20-1_M (QFN, 20-Leads, Body 4x4mm, Pitch 0.5mm, Thermal Pad 2.1x2.1mm, IPC Low Density)
pins: 1 S2A "Source Terminal. May be an input or output", 2 S3B "Source Terminal. May be an input or output", 3 D3 "Drain Terminal. May be an input or output", 4 S3A "Source Terminal. May be an input or output", 5 ~{EN} (in), 6 VSS (power) "Most Negative Power Supply in a Dual Supply Application. In single supply applications, this should be tied to ground close to the device.", 7 GND (power) "Ground (0 V) Reference", 8 A2 (in), 9 A1 (in), 10 A0 (in), 11 S1A "Source Terminal. May be an input or output", 12 S1B "Source Terminal. May be an input or output", 13 D1 "Drain Terminal. May be an input or output", 14 NC "No connection", 15 D2 "Drain Terminal. May be an input or output", 16 VDD (power) "Most Positive Power Supply Potential", 17 NC "No connection", 18 NC "No connection", 19 NC "No connection", 20 S2B "Source Terminal. May be an input or output", 21 EP (power) "Exposed Pad tied to substrate,vss"

## ADG787BCBZ-500RL7
designator U?
2.5 Ohm CMOS Low Power Dual 2:1 Mux / Demux USB 1.1 Switch, -25 to 85 degC, 10-pin BGA (CB-10), Reel; Manufacturer: Analog Devices; PartNumber: ADG787BCBZ-500RL7; Configuration: SPDT; Id, Is (ON): 50pA, 10pA; Max Pos Supply: 5.5V; Min Pos Supply: 1.8V; Power Dissipation: 5.5uW; Ron (ohms): 2.5; DatasheetVersion: 111105-0; PackageVersion: 111105-0, 11/2005; PackageReference: CB-10-ADG787; PackageDescription: 10-Ball Wafer Level Chip Scale Package, Body 2 x 1.5 mm, Pitch 0.5 mm; Supplier 1: Digi-Key; Supplier Part Number 1: ADG787BCBZ-500RL7-ND; Supplier 2: Mouser; Supplier Part Number 2: 584-ADG787BCBZ-500R7; Is OFF: 50pA, 10pA; Packing: Reel; Mounting Technology: Surface Mount; ComponentLink1Description: Manufacturer URL; ComponentLink1URL: http://www.analog.com/en/index.html; ComponentLink2Description: Datasheet; ComponentLink2URL: http://www.analog.com/static/imported-files/data_sheets/ADG787.pdf; ComponentLink3Description: Package Specification; ComponentLink3URL: http://www.analog.com/static/imported-files/data_sheets/ADG787.pdf
footprint ADI-CB-10-ADG787 (BGA, 10-Balls, Body 2x1.5mm, Pitch 0.5mm)
pins: A1 S1B "Source Terminal. May be an input or output.", A2 IN1 (in) "Logic Control Input.", A3 D1 "Drain Terminal. May be an input or output.", A4 S1A "Source Terminal. May be an input or output.", B1 GND (power) "Ground (0 V) Reference.", B4 VDD (power) "Most Positive Power Supply Potential.", C1 S2B "Source Terminal. May be an input or output.", C2 IN2 (in) "Logic Control Input.", C3 D2 "Drain Terminal. May be an input or output.", C4 S2A "Source Terminal. May be an input or output."